# Altium footprint library Headers.PcbLib: 91 footprints (part 5 of 6)
Each footprint in its own frame and in the unit in brackets; x right, y up, seen from the top. Pads: shape width x height; smd on the part's side, far side on the other; paste and mask are expansions set on the pad; w line width, h text height; cw(c..) or ccw(c..) is an arc to the next point about the centre after c.
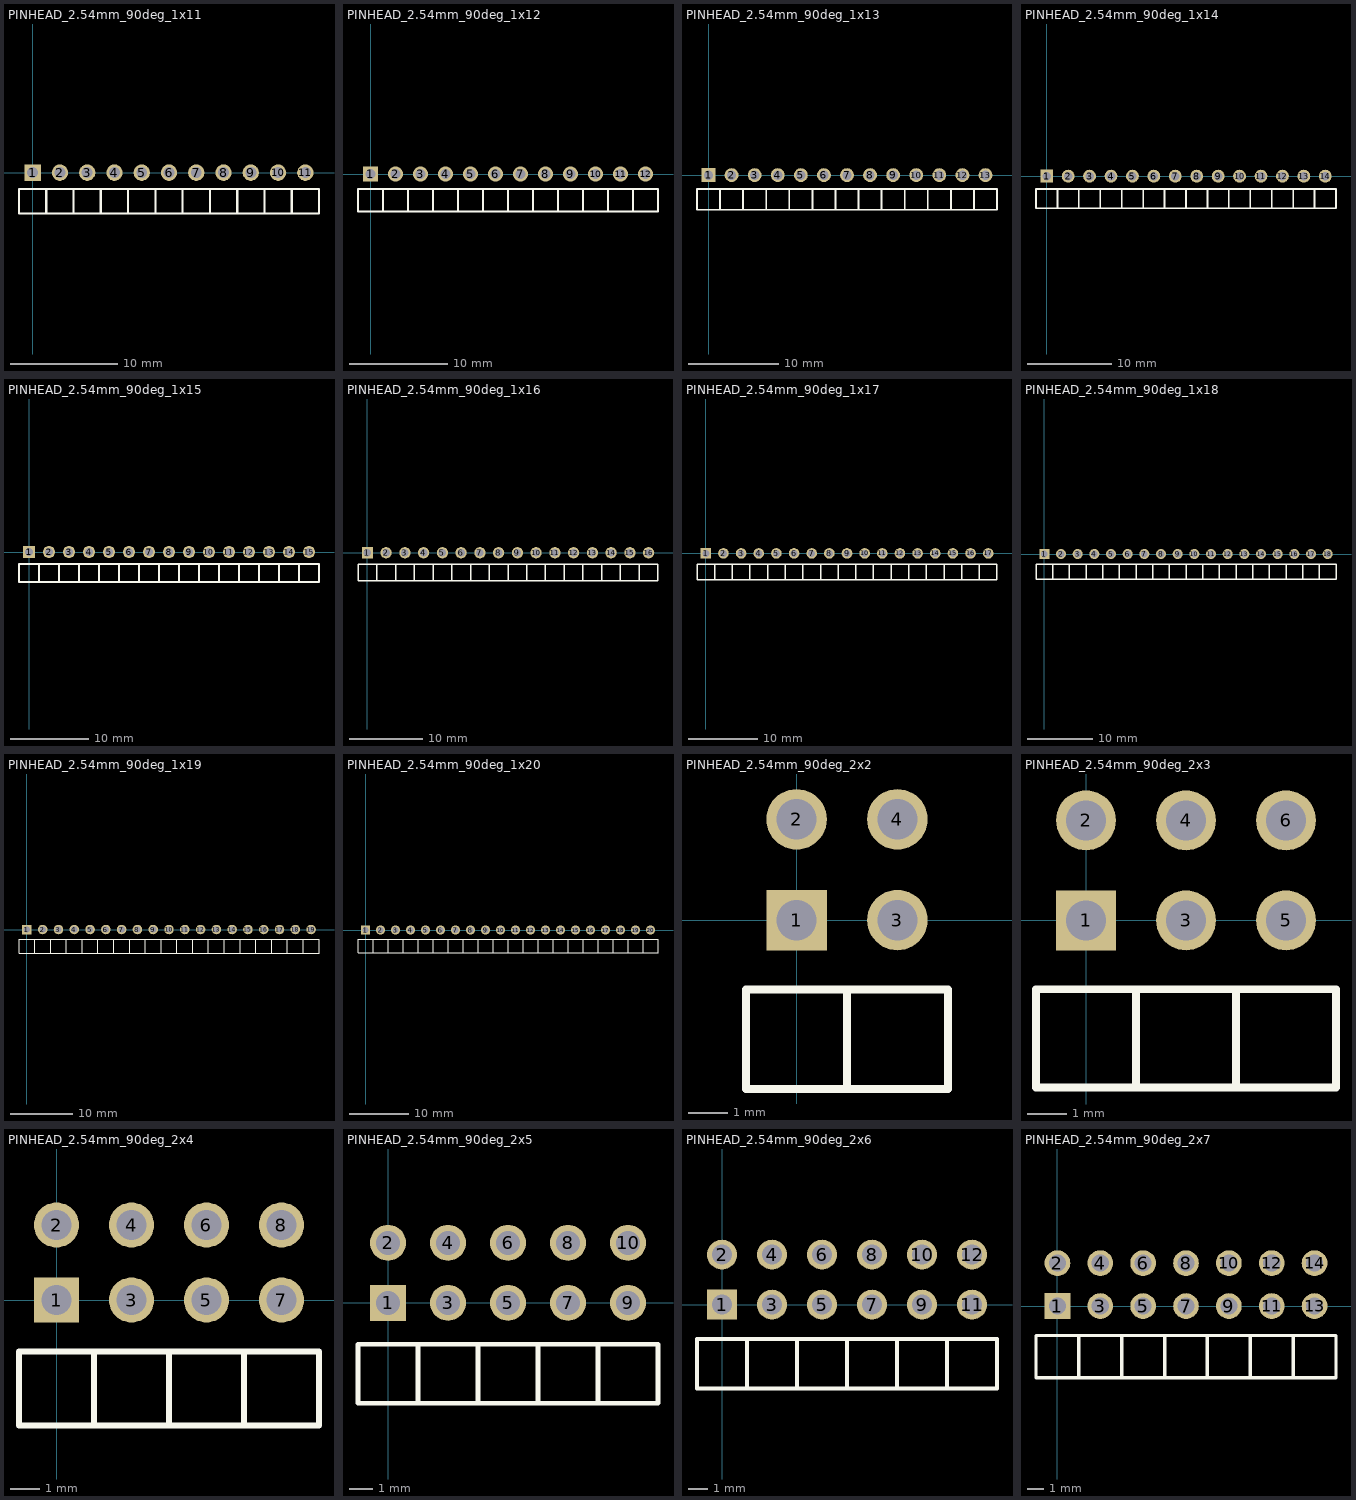
[diagram p4: the footprints below, top view; thin cyan lines are the x and y axes]

## PINHEAD_2.54mm_90deg_1x11 [mil]
pads (11):
  rect 60x60 hole 40: 1(0,0)
  round 60 hole 40: 2(100,0) 3(200,0) 4(300,0) 5(400,0) 6(500,0) 7(600,0) 8(700,0) 9(800,0) 10(900,0) 11(1000,0)
Top Overlay:
  lines w7.87: 50,-150 50,-60 ; 250,-150 250,-60 ; 150,-150 350,-150 ; 150,-150 150,-60 ; 150,-150 150,-60 ; 150,-150 -50,-150 -50,-60 150,-60 ; 150,-60 350,-60 ; 350,-150 350,-60 ; 350,-150 350,-60 ; 350,-150 450,-150 ; 350,-60 450,-60 ; 450,-150 450,-60 ; 450,-150 450,-60 ; 450,-150 550,-150 ; 450,-60 550,-60 ; 550,-150 550,-60 ; 550,-150 550,-60 ; 550,-150 650,-150 ; 550,-60 650,-60 ; 650,-150 650,-60 ; 650,-150 650,-60 ; 650,-150 750,-150 ; 650,-60 750,-60 ; 750,-150 750,-60 ; 750,-150 750,-60 ; 750,-150 850,-150 ; 750,-60 850,-60 ; 850,-150 850,-60 ; 850,-150 850,-60 ; 850,-150 950,-150 ; 850,-60 950,-60 ; 950,-150 950,-60 ; 950,-150 950,-60 ; 950,-150 1050,-150 1050,-60 950,-60
3D body "User Library-Header90-1.step": height 101, standoff -117.11, extent 249.81,-395.08 349.81,12.8
3D body "User Library-Header90-1.step": height 101, standoff -117.11, extent 149.81,-395.08 249.81,12.8
3D body "User Library-Header90-1.step": height 101, standoff -117.11, extent 349.81,-395.08 449.81,12.8
3D body "User Library-Header90-1.step": height 101, standoff -117.11, extent 449.81,-395.08 549.81,12.8
3D body "User Library-Header90-1.step": height 101, standoff -117.11, extent 549.81,-395.08 649.81,12.8
3D body "User Library-Header90-1.step": height 101, standoff -117.11, extent 649.81,-395.08 749.81,12.8
3D body "User Library-Header90-1.step": height 101, standoff -117.11, extent 749.81,-395.08 849.81,12.8
3D body "User Library-Header90-1.step": height 101, standoff -117.11, extent 849.81,-395.08 949.81,12.8
3D body "User Library-Header90-1.step": height 101, standoff -117.11, extent 949.81,-395.08 1049.81,12.8
3D body "User Library-Header90-1.step": height 101, standoff -117.11, extent -50.19,-395.08 49.81,12.8
3D body "User Library-Header90-1.step": height 101, standoff -117.11, extent 49.81,-395.08 149.81,12.8

## PINHEAD_2.54mm_90deg_1x12 [mil]
pads (12):
  rect 60x60 hole 40: 1(0,0)
  round 60 hole 40: 2(100,0) 3(200,0) 4(300,0) 5(400,0) 6(500,0) 7(600,0) 8(700,0) 9(800,0) 10(900,0) 11(1000,0) 12(1100,0)
Top Overlay:
  lines w7.87: 50,-150 50,-60 ; 250,-150 250,-60 ; 150,-150 350,-150 ; 150,-150 150,-60 ; 150,-150 150,-60 ; 150,-150 -50,-150 -50,-60 150,-60 ; 150,-60 350,-60 ; 350,-150 350,-60 ; 350,-150 350,-60 ; 350,-150 450,-150 ; 350,-60 450,-60 ; 450,-150 450,-60 ; 450,-150 450,-60 ; 450,-150 550,-150 ; 450,-60 550,-60 ; 550,-150 550,-60 ; 550,-150 550,-60 ; 550,-150 650,-150 ; 550,-60 650,-60 ; 650,-150 650,-60 ; 650,-150 650,-60 ; 650,-150 750,-150 ; 650,-60 750,-60 ; 750,-150 750,-60 ; 750,-150 750,-60 ; 750,-150 850,-150 ; 750,-60 850,-60 ; 850,-150 850,-60 ; 850,-150 850,-60 ; 850,-150 950,-150 ; 850,-60 950,-60 ; 950,-150 950,-60 ; 950,-150 950,-60 ; 950,-150 1050,-150 ; 950,-60 1050,-60 ; 1050,-150 1050,-60 ; 1050,-150 1150,-150 1150,-60 1050,-60 ; 1050,-150 1050,-60 ; 1050,-150 1050,-60
3D body "User Library-Header90-1.step": height 101, standoff -117.11, extent 249.81,-395.08 349.81,12.8
3D body "User Library-Header90-1.step": height 101, standoff -117.11, extent 149.81,-395.08 249.81,12.8
3D body "User Library-Header90-1.step": height 101, standoff -117.11, extent 349.81,-395.08 449.81,12.8
3D body "User Library-Header90-1.step": height 101, standoff -117.11, extent 449.81,-395.08 549.81,12.8
3D body "User Library-Header90-1.step": height 101, standoff -117.11, extent 549.81,-395.08 649.81,12.8
3D body "User Library-Header90-1.step": height 101, standoff -117.11, extent 649.81,-395.08 749.81,12.8
3D body "User Library-Header90-1.step": height 101, standoff -117.11, extent 749.81,-395.08 849.81,12.8
3D body "User Library-Header90-1.step": height 101, standoff -117.11, extent 849.81,-395.08 949.81,12.8
3D body "User Library-Header90-1.step": height 101, standoff -117.11, extent 949.81,-395.08 1049.81,12.8
3D body "User Library-Header90-1.step": height 101, standoff -117.11, extent -50.19,-395.08 49.81,12.8
3D body "User Library-Header90-1.step": height 101, standoff -117.11, extent 49.81,-395.08 149.81,12.8
3D body "User Library-Header90-1.step": height 101, standoff -117.11, extent 1049.81,-395.08 1149.81,12.8

## PINHEAD_2.54mm_90deg_1x13 [mil]
pads (13):
  rect 60x60 hole 40: 1(0,0)
  round 60 hole 40: 2(100,0) 3(200,0) 4(300,0) 5(400,0) 6(500,0) 7(600,0) 8(700,0) 9(800,0) 10(900,0) 11(1000,0) 12(1100,0) 13(1200,0)
Top Overlay:
  lines w7.87: 50,-150 50,-60 ; 250,-150 250,-60 ; 150,-150 -50,-150 -50,-60 150,-60 ; 150,-150 150,-60 ; 150,-150 150,-60 ; 150,-150 350,-150 ; 150,-60 350,-60 ; 350,-150 450,-150 ; 350,-150 350,-60 ; 350,-150 350,-60 ; 350,-60 450,-60 ; 450,-150 550,-150 ; 450,-150 450,-60 ; 450,-150 450,-60 ; 450,-60 550,-60 ; 550,-150 650,-150 ; 550,-150 550,-60 ; 550,-150 550,-60 ; 550,-60 650,-60 ; 650,-150 750,-150 ; 650,-150 650,-60 ; 650,-150 650,-60 ; 650,-60 750,-60 ; 750,-150 850,-150 ; 750,-150 750,-60 ; 750,-150 750,-60 ; 750,-60 850,-60 ; 850,-150 950,-150 ; 850,-150 850,-60 ; 850,-150 850,-60 ; 850,-60 950,-60 ; 950,-150 1050,-150 ; 950,-150 950,-60 ; 950,-150 950,-60 ; 950,-60 1050,-60 ; 1050,-150 1050,-60 ; 1050,-150 1050,-60 ; 1050,-150 1150,-150 ; 1050,-150 1050,-60 ; 1050,-60 1150,-60 ; 1150,-150 1150,-60 ; 1150,-150 1250,-150 1250,-60 1150,-60 ; 1150,-150 1150,-60
3D body "User Library-Header90-1.step": height 101, standoff -117.11, extent 1149.81,-395.08 1249.81,12.8
3D body "User Library-Header90-1.step": height 101, standoff -117.11, extent 1049.81,-395.08 1149.81,12.8
3D body "User Library-Header90-1.step": height 101, standoff -117.11, extent 49.81,-395.08 149.81,12.8
3D body "User Library-Header90-1.step": height 101, standoff -117.11, extent -50.19,-395.08 49.81,12.8
3D body "User Library-Header90-1.step": height 101, standoff -117.11, extent 949.81,-395.08 1049.81,12.8
3D body "User Library-Header90-1.step": height 101, standoff -117.11, extent 849.81,-395.08 949.81,12.8
3D body "User Library-Header90-1.step": height 101, standoff -117.11, extent 749.81,-395.08 849.81,12.8
3D body "User Library-Header90-1.step": height 101, standoff -117.11, extent 649.81,-395.08 749.81,12.8
3D body "User Library-Header90-1.step": height 101, standoff -117.11, extent 549.81,-395.08 649.81,12.8
3D body "User Library-Header90-1.step": height 101, standoff -117.11, extent 449.81,-395.08 549.81,12.8
3D body "User Library-Header90-1.step": height 101, standoff -117.11, extent 349.81,-395.08 449.81,12.8
3D body "User Library-Header90-1.step": height 101, standoff -117.11, extent 149.81,-395.08 249.81,12.8
3D body "User Library-Header90-1.step": height 101, standoff -117.11, extent 249.81,-395.08 349.81,12.8

## PINHEAD_2.54mm_90deg_1x14 [mil]
pads (14):
  rect 60x60 hole 40: 1(0,0)
  round 60 hole 40: 2(100,0) 3(200,0) 4(300,0) 5(400,0) 6(500,0) 7(600,0) 8(700,0) 9(800,0) 10(900,0) 11(1000,0) 12(1100,0) 13(1200,0) 14(1300,0)
Top Overlay:
  lines w7.87: 50,-150 50,-60 ; 250,-150 250,-60 ; 150,-150 350,-150 ; 150,-150 150,-60 ; 150,-150 150,-60 ; 150,-150 -50,-150 -50,-60 150,-60 ; 150,-60 350,-60 ; 350,-150 350,-60 ; 350,-150 350,-60 ; 350,-150 450,-150 ; 350,-60 450,-60 ; 450,-150 450,-60 ; 450,-150 450,-60 ; 450,-150 550,-150 ; 450,-60 550,-60 ; 550,-150 550,-60 ; 550,-150 550,-60 ; 550,-150 650,-150 ; 550,-60 650,-60 ; 650,-150 650,-60 ; 650,-150 650,-60 ; 650,-150 750,-150 ; 650,-60 750,-60 ; 750,-150 750,-60 ; 750,-150 750,-60 ; 750,-150 850,-150 ; 750,-60 850,-60 ; 850,-150 850,-60 ; 850,-150 850,-60 ; 850,-150 950,-150 ; 850,-60 950,-60 ; 950,-150 950,-60 ; 950,-150 950,-60 ; 950,-150 1050,-150 ; 950,-60 1050,-60 ; 1050,-150 1050,-60 ; 1050,-150 1150,-150 ; 1050,-150 1050,-60 ; 1050,-150 1050,-60 ; 1050,-60 1150,-60 ; 1150,-150 1150,-60 ; 1150,-150 1250,-150 ; 1150,-150 1150,-60 ; 1150,-60 1250,-60 ; 1250,-150 1250,-60 ; 1250,-150 1350,-150 1350,-60 1250,-60 ; 1250,-150 1250,-60
3D body "User Library-Header90-1.step": height 101, standoff -117.11, extent 249.81,-395.08 349.81,12.8
3D body "User Library-Header90-1.step": height 101, standoff -117.11, extent 149.81,-395.08 249.81,12.8
3D body "User Library-Header90-1.step": height 101, standoff -117.11, extent 349.81,-395.08 449.81,12.8
3D body "User Library-Header90-1.step": height 101, standoff -117.11, extent 449.81,-395.08 549.81,12.8
3D body "User Library-Header90-1.step": height 101, standoff -117.11, extent 549.81,-395.08 649.81,12.8
3D body "User Library-Header90-1.step": height 101, standoff -117.11, extent 649.81,-395.08 749.81,12.8
3D body "User Library-Header90-1.step": height 101, standoff -117.11, extent 749.81,-395.08 849.81,12.8
3D body "User Library-Header90-1.step": height 101, standoff -117.11, extent 849.81,-395.08 949.81,12.8
3D body "User Library-Header90-1.step": height 101, standoff -117.11, extent 949.81,-395.08 1049.81,12.8
3D body "User Library-Header90-1.step": height 101, standoff -117.11, extent -50.19,-395.08 49.81,12.8
3D body "User Library-Header90-1.step": height 101, standoff -117.11, extent 49.81,-395.08 149.81,12.8
3D body "User Library-Header90-1.step": height 101, standoff -117.11, extent 1049.81,-395.08 1149.81,12.8
3D body "User Library-Header90-1.step": height 101, standoff -117.11, extent 1149.81,-395.08 1249.81,12.8
3D body "User Library-Header90-1.step": height 101, standoff -117.11, extent 1249.81,-395.08 1349.81,12.8

## PINHEAD_2.54mm_90deg_1x15 [mil]
pads (15):
  rect 60x60 hole 40: 1(0,0)
  round 60 hole 40: 2(100,0) 3(200,0) 4(300,0) 5(400,0) 6(500,0) 7(600,0) 8(700,0) 9(800,0) 10(900,0) 11(1000,0) 12(1100,0) 13(1200,0) 14(1300,0) 15(1400,0)
Top Overlay:
  lines w7.87: 50,-150 50,-60 ; 250,-150 250,-60 ; 150,-150 350,-150 ; 150,-150 150,-60 ; 150,-150 150,-60 ; 150,-150 -50,-150 -50,-60 150,-60 ; 150,-60 350,-60 ; 350,-150 350,-60 ; 350,-150 350,-60 ; 350,-150 450,-150 ; 350,-60 450,-60 ; 450,-150 450,-60 ; 450,-150 450,-60 ; 450,-150 550,-150 ; 450,-60 550,-60 ; 550,-150 550,-60 ; 550,-150 550,-60 ; 550,-150 650,-150 ; 550,-60 650,-60 ; 650,-150 650,-60 ; 650,-150 650,-60 ; 650,-150 750,-150 ; 650,-60 750,-60 ; 750,-150 750,-60 ; 750,-150 750,-60 ; 750,-150 850,-150 ; 750,-60 850,-60 ; 850,-150 850,-60 ; 850,-150 850,-60 ; 850,-150 950,-150 ; 850,-60 950,-60 ; 950,-150 950,-60 ; 950,-150 950,-60 ; 950,-150 1050,-150 ; 950,-60 1050,-60 ; 1050,-150 1050,-60 ; 1050,-150 1150,-150 ; 1050,-150 1050,-60 ; 1050,-150 1050,-60 ; 1050,-60 1150,-60 ; 1150,-150 1150,-60 ; 1150,-150 1250,-150 ; 1150,-150 1150,-60 ; 1150,-60 1250,-60 ; 1250,-150 1250,-60 ; 1250,-150 1350,-150 ; 1250,-150 1250,-60 ; 1250,-60 1350,-60 ; 1350,-150 1350,-60 ; 1350,-150 1450,-150 1450,-60 1350,-60 ; 1350,-150 1350,-60
3D body "User Library-Header90-1.step": height 101, standoff -117.11, extent 249.81,-395.08 349.81,12.8
3D body "User Library-Header90-1.step": height 101, standoff -117.11, extent 149.81,-395.08 249.81,12.8
3D body "User Library-Header90-1.step": height 101, standoff -117.11, extent 349.81,-395.08 449.81,12.8
3D body "User Library-Header90-1.step": height 101, standoff -117.11, extent 449.81,-395.08 549.81,12.8
3D body "User Library-Header90-1.step": height 101, standoff -117.11, extent 549.81,-395.08 649.81,12.8
3D body "User Library-Header90-1.step": height 101, standoff -117.11, extent 649.81,-395.08 749.81,12.8
3D body "User Library-Header90-1.step": height 101, standoff -117.11, extent 749.81,-395.08 849.81,12.8
3D body "User Library-Header90-1.step": height 101, standoff -117.11, extent 849.81,-395.08 949.81,12.8
3D body "User Library-Header90-1.step": height 101, standoff -117.11, extent 949.81,-395.08 1049.81,12.8
3D body "User Library-Header90-1.step": height 101, standoff -117.11, extent -50.19,-395.08 49.81,12.8
3D body "User Library-Header90-1.step": height 101, standoff -117.11, extent 49.81,-395.08 149.81,12.8
3D body "User Library-Header90-1.step": height 101, standoff -117.11, extent 1049.81,-395.08 1149.81,12.8
3D body "User Library-Header90-1.step": height 101, standoff -117.11, extent 1149.81,-395.08 1249.81,12.8
3D body "User Library-Header90-1.step": height 101, standoff -117.11, extent 1249.81,-395.08 1349.81,12.8
3D body "User Library-Header90-1.step": height 101, standoff -117.11, extent 1349.81,-395.08 1449.81,12.8

## PINHEAD_2.54mm_90deg_1x16 [mil]
pads (16):
  rect 60x60 hole 40: 1(0,0)
  round 60 hole 40: 2(100,0) 3(200,0) 4(300,0) 5(400,0) 6(500,0) 7(600,0) 8(700,0) 9(800,0) 10(900,0) 11(1000,0) 12(1100,0) 13(1200,0) 14(1300,0) 15(1400,0) 16(1500,0)
Top Overlay:
  lines w7.87: 50,-150 50,-60 ; 250,-150 250,-60 ; 150,-150 -50,-150 -50,-60 150,-60 ; 150,-150 150,-60 ; 150,-150 150,-60 ; 150,-150 350,-150 ; 150,-60 350,-60 ; 350,-150 450,-150 ; 350,-150 350,-60 ; 350,-150 350,-60 ; 350,-60 450,-60 ; 450,-150 550,-150 ; 450,-150 450,-60 ; 450,-150 450,-60 ; 450,-60 550,-60 ; 550,-150 650,-150 ; 550,-150 550,-60 ; 550,-150 550,-60 ; 550,-60 650,-60 ; 650,-150 750,-150 ; 650,-150 650,-60 ; 650,-150 650,-60 ; 650,-60 750,-60 ; 750,-150 850,-150 ; 750,-150 750,-60 ; 750,-150 750,-60 ; 750,-60 850,-60 ; 850,-150 950,-150 ; 850,-150 850,-60 ; 850,-150 850,-60 ; 850,-60 950,-60 ; 950,-150 1050,-150 ; 950,-150 950,-60 ; 950,-150 950,-60 ; 950,-60 1050,-60 ; 1050,-150 1050,-60 ; 1050,-150 1050,-60 ; 1050,-150 1150,-150 ; 1050,-150 1050,-60 ; 1050,-60 1150,-60 ; 1150,-150 1150,-60 ; 1150,-150 1250,-150 ; 1150,-150 1150,-60 ; 1150,-60 1250,-60 ; 1250,-150 1250,-60 ; 1250,-150 1350,-150 ; 1250,-150 1250,-60 ; 1250,-60 1350,-60 ; 1350,-150 1350,-60 ; 1350,-150 1450,-150 ; 1350,-150 1350,-60 ; 1350,-60 1450,-60 ; 1450,-150 1450,-60 ; 1450,-150 1550,-150 1550,-60 1450,-60 ; 1450,-150 1450,-60
3D body "User Library-Header90-1.step": height 101, standoff -117.11, extent 1349.81,-395.08 1449.81,12.8
3D body "User Library-Header90-1.step": height 101, standoff -117.11, extent 1249.81,-395.08 1349.81,12.8
3D body "User Library-Header90-1.step": height 101, standoff -117.11, extent 1149.81,-395.08 1249.81,12.8
3D body "User Library-Header90-1.step": height 101, standoff -117.11, extent 1049.81,-395.08 1149.81,12.8
3D body "User Library-Header90-1.step": height 101, standoff -117.11, extent 49.81,-395.08 149.81,12.8
3D body "User Library-Header90-1.step": height 101, standoff -117.11, extent -50.19,-395.08 49.81,12.8
3D body "User Library-Header90-1.step": height 101, standoff -117.11, extent 949.81,-395.08 1049.81,12.8
3D body "User Library-Header90-1.step": height 101, standoff -117.11, extent 849.81,-395.08 949.81,12.8
3D body "User Library-Header90-1.step": height 101, standoff -117.11, extent 749.81,-395.08 849.81,12.8
3D body "User Library-Header90-1.step": height 101, standoff -117.11, extent 649.81,-395.08 749.81,12.8
3D body "User Library-Header90-1.step": height 101, standoff -117.11, extent 549.81,-395.08 649.81,12.8
3D body "User Library-Header90-1.step": height 101, standoff -117.11, extent 449.81,-395.08 549.81,12.8
3D body "User Library-Header90-1.step": height 101, standoff -117.11, extent 349.81,-395.08 449.81,12.8
3D body "User Library-Header90-1.step": height 101, standoff -117.11, extent 149.81,-395.08 249.81,12.8
3D body "User Library-Header90-1.step": height 101, standoff -117.11, extent 249.81,-395.08 349.81,12.8
3D body "User Library-Header90-1.step": height 101, standoff -117.11, extent 1449.81,-395.08 1549.81,12.8

## PINHEAD_2.54mm_90deg_1x17 [mil]
pads (17):
  rect 60x60 hole 40: 1(0,0)
  round 60 hole 40: 2(100,0) 3(200,0) 4(300,0) 5(400,0) 6(500,0) 7(600,0) 8(700,0) 9(800,0) 10(900,0) 11(1000,0) 12(1100,0) 13(1200,0) 14(1300,0) 15(1400,0) 16(1500,0) 17(1600,0)
Top Overlay:
  lines w7.87: 50,-150 50,-60 ; 250,-150 250,-60 ; 150,-150 -50,-150 -50,-60 150,-60 ; 150,-150 150,-60 ; 150,-150 150,-60 ; 150,-150 350,-150 ; 150,-60 350,-60 ; 350,-150 450,-150 ; 350,-150 350,-60 ; 350,-150 350,-60 ; 350,-60 450,-60 ; 450,-150 550,-150 ; 450,-150 450,-60 ; 450,-150 450,-60 ; 450,-60 550,-60 ; 550,-150 650,-150 ; 550,-150 550,-60 ; 550,-150 550,-60 ; 550,-60 650,-60 ; 650,-150 750,-150 ; 650,-150 650,-60 ; 650,-150 650,-60 ; 650,-60 750,-60 ; 750,-150 850,-150 ; 750,-150 750,-60 ; 750,-150 750,-60 ; 750,-60 850,-60 ; 850,-150 950,-150 ; 850,-150 850,-60 ; 850,-150 850,-60 ; 850,-60 950,-60 ; 950,-150 1050,-150 ; 950,-150 950,-60 ; 950,-150 950,-60 ; 950,-60 1050,-60 ; 1050,-150 1050,-60 ; 1050,-150 1050,-60 ; 1050,-150 1150,-150 ; 1050,-150 1050,-60 ; 1050,-60 1150,-60 ; 1150,-150 1150,-60 ; 1150,-150 1250,-150 ; 1150,-150 1150,-60 ; 1150,-60 1250,-60 ; 1250,-150 1350,-150 ; 1250,-150 1250,-60 ; 1250,-150 1250,-60 ; 1250,-60 1350,-60 ; 1350,-150 1350,-60 ; 1350,-150 1450,-150 ; 1350,-150 1350,-60 ; 1350,-60 1450,-60 ; 1450,-150 1450,-60 ; 1450,-150 1550,-150 ; 1450,-150 1450,-60 ; 1450,-60 1550,-60 ; 1550,-150 1550,-60 ; 1550,-150 1650,-150 1650,-60 1550,-60 ; 1550,-150 1550,-60
3D body "User Library-Header90-1.step": height 101, standoff -117.11, extent 1049.81,-395.08 1149.81,12.8
3D body "User Library-Header90-1.step": height 101, standoff -117.11, extent 49.81,-395.08 149.81,12.8
3D body "User Library-Header90-1.step": height 101, standoff -117.11, extent -50.19,-395.08 49.81,12.8
3D body "User Library-Header90-1.step": height 101, standoff -117.11, extent 949.81,-395.08 1049.81,12.8
3D body "User Library-Header90-1.step": height 101, standoff -117.11, extent 849.81,-395.08 949.81,12.8
3D body "User Library-Header90-1.step": height 101, standoff -117.11, extent 749.81,-395.08 849.81,12.8
3D body "User Library-Header90-1.step": height 101, standoff -117.11, extent 649.81,-395.08 749.81,12.8
3D body "User Library-Header90-1.step": height 101, standoff -117.11, extent 549.81,-395.08 649.81,12.8
3D body "User Library-Header90-1.step": height 101, standoff -117.11, extent 449.81,-395.08 549.81,12.8
3D body "User Library-Header90-1.step": height 101, standoff -117.11, extent 349.81,-395.08 449.81,12.8
3D body "User Library-Header90-1.step": height 101, standoff -117.11, extent 149.81,-395.08 249.81,12.8
3D body "User Library-Header90-1.step": height 101, standoff -117.11, extent 249.81,-395.08 349.81,12.8
3D body "User Library-Header90-1.step": height 101, standoff -117.11, extent 1249.81,-395.08 1349.81,12.8
3D body "User Library-Header90-1.step": height 101, standoff -117.11, extent 1149.81,-395.08 1249.81,12.8
3D body "User Library-Header90-1.step": height 101, standoff -117.11, extent 1349.81,-395.08 1449.81,12.8
3D body "User Library-Header90-1.step": height 101, standoff -117.11, extent 1449.81,-395.08 1549.81,12.8
3D body "User Library-Header90-1.step": height 101, standoff -117.11, extent 1549.81,-395.08 1649.81,12.8

## PINHEAD_2.54mm_90deg_1x18 [mil]
pads (18):
  rect 60x60 hole 40: 1(0,0)
  round 60 hole 40: 2(100,0) 3(200,0) 4(300,0) 5(400,0) 6(500,0) 7(600,0) 8(700,0) 9(800,0) 10(900,0) 11(1000,0) 12(1100,0) 13(1200,0) 14(1300,0) 15(1400,0) 16(1500,0) 17(1600,0) 18(1700,0)
Top Overlay:
  lines w7.87: 50,-150 50,-60 ; 250,-150 250,-60 ; 150,-150 350,-150 ; 150,-150 150,-60 ; 150,-150 150,-60 ; 150,-150 -50,-150 -50,-60 150,-60 ; 150,-60 350,-60 ; 350,-150 350,-60 ; 350,-150 350,-60 ; 350,-150 450,-150 ; 350,-60 450,-60 ; 450,-150 450,-60 ; 450,-150 450,-60 ; 450,-150 550,-150 ; 450,-60 550,-60 ; 550,-150 550,-60 ; 550,-150 550,-60 ; 550,-150 650,-150 ; 550,-60 650,-60 ; 650,-150 650,-60 ; 650,-150 650,-60 ; 650,-150 750,-150 ; 650,-60 750,-60 ; 750,-150 750,-60 ; 750,-150 750,-60 ; 750,-150 850,-150 ; 750,-60 850,-60 ; 850,-150 850,-60 ; 850,-150 850,-60 ; 850,-150 950,-150 ; 850,-60 950,-60 ; 950,-150 950,-60 ; 950,-150 950,-60 ; 950,-150 1050,-150 ; 950,-60 1050,-60 ; 1050,-150 1050,-60 ; 1050,-150 1150,-150 ; 1050,-150 1050,-60 ; 1050,-150 1050,-60 ; 1050,-60 1150,-60 ; 1150,-150 1150,-60 ; 1150,-150 1250,-150 ; 1150,-150 1150,-60 ; 1150,-60 1250,-60 ; 1250,-150 1250,-60 ; 1250,-150 1350,-150 ; 1250,-150 1250,-60 ; 1250,-60 1350,-60 ; 1350,-150 1350,-60 ; 1350,-150 1450,-150 ; 1350,-150 1350,-60 ; 1350,-60 1450,-60 ; 1450,-150 1450,-60 ; 1450,-150 1550,-150 ; 1450,-150 1450,-60 ; 1450,-60 1550,-60 ; 1550,-150 1550,-60 ; 1550,-150 1650,-150 ; 1550,-150 1550,-60 ; 1550,-60 1650,-60 ; 1650,-150 1650,-60 ; 1650,-150 1750,-150 1750,-60 1650,-60 ; 1650,-150 1650,-60
3D body "User Library-Header90-1.step": height 101, standoff -117.11, extent 249.81,-395.08 349.81,12.8
3D body "User Library-Header90-1.step": height 101, standoff -117.11, extent 149.81,-395.08 249.81,12.8
3D body "User Library-Header90-1.step": height 101, standoff -117.11, extent 349.81,-395.08 449.81,12.8
3D body "User Library-Header90-1.step": height 101, standoff -117.11, extent 449.81,-395.08 549.81,12.8
3D body "User Library-Header90-1.step": height 101, standoff -117.11, extent 549.81,-395.08 649.81,12.8
3D body "User Library-Header90-1.step": height 101, standoff -117.11, extent 649.81,-395.08 749.81,12.8
3D body "User Library-Header90-1.step": height 101, standoff -117.11, extent 749.81,-395.08 849.81,12.8
3D body "User Library-Header90-1.step": height 101, standoff -117.11, extent 849.81,-395.08 949.81,12.8
3D body "User Library-Header90-1.step": height 101, standoff -117.11, extent 949.81,-395.08 1049.81,12.8
3D body "User Library-Header90-1.step": height 101, standoff -117.11, extent -50.19,-395.08 49.81,12.8
3D body "User Library-Header90-1.step": height 101, standoff -117.11, extent 49.81,-395.08 149.81,12.8
3D body "User Library-Header90-1.step": height 101, standoff -117.11, extent 1049.81,-395.08 1149.81,12.8
3D body "User Library-Header90-1.step": height 101, standoff -117.11, extent 1149.81,-395.08 1249.81,12.8
3D body "User Library-Header90-1.step": height 101, standoff -117.11, extent 1249.81,-395.08 1349.81,12.8
3D body "User Library-Header90-1.step": height 101, standoff -117.11, extent 1349.81,-395.08 1449.81,12.8
3D body "User Library-Header90-1.step": height 101, standoff -117.11, extent 1449.81,-395.08 1549.81,12.8
3D body "User Library-Header90-1.step": height 101, standoff -117.11, extent 1549.81,-395.08 1649.81,12.8
3D body "User Library-Header90-1.step": height 101, standoff -117.11, extent 1649.81,-395.08 1749.81,12.8

## PINHEAD_2.54mm_90deg_1x19 [mil]
pads (19):
  rect 60x60 hole 40: 1(0,0)
  round 60 hole 40: 2(100,0) 3(200,0) 4(300,0) 5(400,0) 6(500,0) 7(600,0) 8(700,0) 9(800,0) 10(900,0) 11(1000,0) 12(1100,0) 13(1200,0) 14(1300,0) 15(1400,0) 16(1500,0) 17(1600,0) 18(1700,0) 19(1800,0)
Top Overlay:
  lines w7.87: 50,-150 50,-60 ; 250,-150 250,-60 ; 150,-150 350,-150 ; 150,-150 150,-60 ; 150,-150 150,-60 ; 150,-150 -50,-150 -50,-60 150,-60 ; 150,-60 350,-60 ; 350,-150 350,-60 ; 350,-150 350,-60 ; 350,-150 450,-150 ; 350,-60 450,-60 ; 450,-150 450,-60 ; 450,-150 450,-60 ; 450,-150 550,-150 ; 450,-60 550,-60 ; 550,-150 550,-60 ; 550,-150 550,-60 ; 550,-150 650,-150 ; 550,-60 650,-60 ; 650,-150 650,-60 ; 650,-150 650,-60 ; 650,-150 750,-150 ; 650,-60 750,-60 ; 750,-150 750,-60 ; 750,-150 750,-60 ; 750,-150 850,-150 ; 750,-60 850,-60 ; 850,-150 850,-60 ; 850,-150 850,-60 ; 850,-150 950,-150 ; 850,-60 950,-60 ; 950,-150 950,-60 ; 950,-150 950,-60 ; 950,-150 1050,-150 ; 950,-60 1050,-60 ; 1050,-150 1050,-60 ; 1050,-150 1150,-150 ; 1050,-150 1050,-60 ; 1050,-150 1050,-60 ; 1050,-60 1150,-60 ; 1150,-150 1150,-60 ; 1150,-150 1250,-150 ; 1150,-150 1150,-60 ; 1150,-60 1250,-60 ; 1250,-150 1250,-60 ; 1250,-150 1350,-150 ; 1250,-150 1250,-60 ; 1250,-60 1350,-60 ; 1350,-150 1350,-60 ; 1350,-150 1450,-150 ; 1350,-150 1350,-60 ; 1350,-60 1450,-60 ; 1450,-150 1450,-60 ; 1450,-150 1550,-150 ; 1450,-150 1450,-60 ; 1450,-60 1550,-60 ; 1550,-150 1550,-60 ; 1550,-150 1650,-150 ; 1550,-150 1550,-60 ; 1550,-60 1650,-60 ; 1650,-150 1650,-60 ; 1650,-150 1750,-150 ; 1650,-150 1650,-60 ; 1650,-60 1750,-60 ; 1750,-150 1750,-60 ; 1750,-150 1850,-150 1850,-60 1750,-60 ; 1750,-150 1750,-60
3D body "User Library-Header90-1.step": height 101, standoff -117.11, extent 249.81,-395.08 349.81,12.8
3D body "User Library-Header90-1.step": height 101, standoff -117.11, extent 149.81,-395.08 249.81,12.8
3D body "User Library-Header90-1.step": height 101, standoff -117.11, extent 349.81,-395.08 449.81,12.8
3D body "User Library-Header90-1.step": height 101, standoff -117.11, extent 449.81,-395.08 549.81,12.8
3D body "User Library-Header90-1.step": height 101, standoff -117.11, extent 549.81,-395.08 649.81,12.8
3D body "User Library-Header90-1.step": height 101, standoff -117.11, extent 649.81,-395.08 749.81,12.8
3D body "User Library-Header90-1.step": height 101, standoff -117.11, extent 749.81,-395.08 849.81,12.8
3D body "User Library-Header90-1.step": height 101, standoff -117.11, extent 849.81,-395.08 949.81,12.8
3D body "User Library-Header90-1.step": height 101, standoff -117.11, extent 949.81,-395.08 1049.81,12.8
3D body "User Library-Header90-1.step": height 101, standoff -117.11, extent -50.19,-395.08 49.81,12.8
3D body "User Library-Header90-1.step": height 101, standoff -117.11, extent 49.81,-395.08 149.81,12.8
3D body "User Library-Header90-1.step": height 101, standoff -117.11, extent 1049.81,-395.08 1149.81,12.8
3D body "User Library-Header90-1.step": height 101, standoff -117.11, extent 1149.81,-395.08 1249.81,12.8
3D body "User Library-Header90-1.step": height 101, standoff -117.11, extent 1249.81,-395.08 1349.81,12.8
3D body "User Library-Header90-1.step": height 101, standoff -117.11, extent 1349.81,-395.08 1449.81,12.8
3D body "User Library-Header90-1.step": height 101, standoff -117.11, extent 1449.81,-395.08 1549.81,12.8
3D body "User Library-Header90-1.step": height 101, standoff -117.11, extent 1549.81,-395.08 1649.81,12.8
3D body "User Library-Header90-1.step": height 101, standoff -117.11, extent 1649.81,-395.08 1749.81,12.8
3D body "User Library-Header90-1.step": height 101, standoff -117.11, extent 1749.81,-395.08 1849.81,12.8

## PINHEAD_2.54mm_90deg_1x20 [mil]
pads (20):
  rect 60x60 hole 40: 1(0,0)
  round 60 hole 40: 2(100,0) 3(200,0) 4(300,0) 5(400,0) 6(500,0) 7(600,0) 8(700,0) 9(800,0) 10(900,0) 11(1000,0) 12(1100,0) 13(1200,0) 14(1300,0) 15(1400,0) 16(1500,0) 17(1600,0) 18(1700,0) 19(1800,0) 20(1900,0)
Top Overlay:
  lines w7.87: 50,-150 50,-60 ; 250,-150 250,-60 ; 150,-150 -50,-150 -50,-60 150,-60 ; 150,-150 150,-60 ; 150,-150 150,-60 ; 150,-150 350,-150 ; 150,-60 350,-60 ; 350,-150 450,-150 ; 350,-150 350,-60 ; 350,-150 350,-60 ; 350,-60 450,-60 ; 450,-150 550,-150 ; 450,-150 450,-60 ; 450,-150 450,-60 ; 450,-60 550,-60 ; 550,-150 650,-150 ; 550,-150 550,-60 ; 550,-150 550,-60 ; 550,-60 650,-60 ; 650,-150 750,-150 ; 650,-150 650,-60 ; 650,-150 650,-60 ; 650,-60 750,-60 ; 750,-150 850,-150 ; 750,-150 750,-60 ; 750,-150 750,-60 ; 750,-60 850,-60 ; 850,-150 950,-150 ; 850,-150 850,-60 ; 850,-150 850,-60 ; 850,-60 950,-60 ; 950,-150 1050,-150 ; 950,-150 950,-60 ; 950,-150 950,-60 ; 950,-60 1050,-60 ; 1050,-150 1050,-60 ; 1050,-150 1050,-60 ; 1050,-150 1150,-150 ; 1050,-150 1050,-60 ; 1050,-60 1150,-60 ; 1150,-150 1150,-60 ; 1150,-150 1250,-150 ; 1150,-150 1150,-60 ; 1150,-60 1250,-60 ; 1250,-150 1250,-60 ; 1250,-150 1350,-150 ; 1250,-150 1250,-60 ; 1250,-60 1350,-60 ; 1350,-150 1350,-60 ; 1350,-150 1450,-150 ; 1350,-150 1350,-60 ; 1350,-60 1450,-60 ; 1450,-150 1450,-60 ; 1450,-150 1550,-150 ; 1450,-150 1450,-60 ; 1450,-60 1550,-60 ; 1550,-150 1550,-60 ; 1550,-150 1650,-150 ; 1550,-150 1550,-60 ; 1550,-60 1650,-60 ; 1650,-150 1650,-60 ; 1650,-150 1750,-150 ; 1650,-150 1650,-60 ; 1650,-60 1750,-60 ; 1750,-150 1750,-60 ; 1750,-150 1850,-150 ; 1750,-150 1750,-60 ; 1750,-60 1850,-60 ; 1850,-150 1850,-60 ; 1850,-150 1950,-150 1950,-60 1850,-60 ; 1850,-150 1850,-60
3D body "User Library-Header90-1.step": height 101, standoff -117.11, extent 1849.81,-395.08 1949.81,12.8
3D body "User Library-Header90-1.step": height 101, standoff -117.11, extent 1749.81,-395.08 1849.81,12.8
3D body "User Library-Header90-1.step": height 101, standoff -117.11, extent 1649.81,-395.08 1749.81,12.8
3D body "User Library-Header90-1.step": height 101, standoff -117.11, extent 1549.81,-395.08 1649.81,12.8
3D body "User Library-Header90-1.step": height 101, standoff -117.11, extent 1449.81,-395.08 1549.81,12.8
3D body "User Library-Header90-1.step": height 101, standoff -117.11, extent 1349.81,-395.08 1449.81,12.8
3D body "User Library-Header90-1.step": height 101, standoff -117.11, extent 1249.81,-395.08 1349.81,12.8
3D body "User Library-Header90-1.step": height 101, standoff -117.11, extent 1149.81,-395.08 1249.81,12.8
3D body "User Library-Header90-1.step": height 101, standoff -117.11, extent 1049.81,-395.08 1149.81,12.8
3D body "User Library-Header90-1.step": height 101, standoff -117.11, extent 49.81,-395.08 149.81,12.8
3D body "User Library-Header90-1.step": height 101, standoff -117.11, extent -50.19,-395.08 49.81,12.8
3D body "User Library-Header90-1.step": height 101, standoff -117.11, extent 949.81,-395.08 1049.81,12.8
3D body "User Library-Header90-1.step": height 101, standoff -117.11, extent 849.81,-395.08 949.81,12.8
3D body "User Library-Header90-1.step": height 101, standoff -117.11, extent 749.81,-395.08 849.81,12.8
3D body "User Library-Header90-1.step": height 101, standoff -117.11, extent 649.81,-395.08 749.81,12.8
3D body "User Library-Header90-1.step": height 101, standoff -117.11, extent 549.81,-395.08 649.81,12.8
3D body "User Library-Header90-1.step": height 101, standoff -117.11, extent 449.81,-395.08 549.81,12.8
3D body "User Library-Header90-1.step": height 101, standoff -117.11, extent 349.81,-395.08 449.81,12.8
3D body "User Library-Header90-1.step": height 101, standoff -117.11, extent 149.81,-395.08 249.81,12.8
3D body "User Library-Header90-1.step": height 101, standoff -117.11, extent 249.81,-395.08 349.81,12.8

## PINHEAD_2.54mm_90deg_2x2 [mil]
pads (4):
  rect 60x60 hole 40: 1(0,0)
  round 60 hole 40: 2(0,100) 3(100,0) 4(100,100)
Top Overlay:
  lines w7.87: 50,-167.32 50,-68.9 ; 50,-167.32 150,-167.32 150,-68.9 50,-68.9 ; 50,-167.32 -50,-167.32 -50,-68.9 50,-68.9
3D body "901220122.stp": height 242.13, standoff -114.17, extent -49.99,-433.16 150.01,112.09

## PINHEAD_2.54mm_90deg_2x3 [mil]
pads (6):
  rect 60x60 hole 40: 1(0,0)
  round 60 hole 40: 2(0,100) 3(100,0) 4(100,100) 5(200,0) 6(200,100)
Top Overlay:
  lines w7.87: 50,-167.32 -50,-167.32 -50,-68.9 50,-68.9 ; 50,-167.32 150,-167.32 ; 50,-167.32 50,-68.9 ; 50,-68.9 150,-68.9 ; 150,-167.32 150,-68.9 ; 150,-167.32 150,-68.9 ; 150,-167.32 250,-167.32 250,-68.9 150,-68.9
3D body "901220123.stp": height 242.13, standoff -114.17, extent -49.99,-433.16 250.01,112.09

## PINHEAD_2.54mm_90deg_2x4 [mil]
pads (8):
  rect 60x60 hole 40: 1(0,0)
  round 60 hole 40: 2(0,100) 3(100,0) 4(100,100) 5(200,0) 6(200,100) 7(300,0) 8(300,100)
Top Overlay:
  lines w7.87: 50,-167.32 -50,-167.32 -50,-68.9 50,-68.9 ; 50,-167.32 150,-167.32 ; 50,-167.32 50,-68.9 ; 50,-68.9 150,-68.9 ; 150,-167.32 150,-68.9 ; 150,-167.32 250,-167.32 ; 150,-167.32 150,-68.9 ; 150,-68.9 250,-68.9 ; 250,-167.32 350,-167.32 350,-68.9 250,-68.9 ; 250,-167.32 250,-68.9
3D body "901220122.stp": height 242.13, standoff -114.17, extent 150.01,-433.16 350.01,112.09
3D body "901220122.stp": height 242.13, standoff -114.17, extent -49.99,-433.16 150.01,112.09

## PINHEAD_2.54mm_90deg_2x5 [mil]
pads (10):
  rect 60x60 hole 40: 1(0,0)
  round 60 hole 40: 2(0,100) 3(100,0) 4(100,100) 5(200,0) 6(200,100) 7(300,0) 8(300,100) 9(400,0) 10(400,100)
Top Overlay:
  lines w7.87: 50,-167.32 -50,-167.32 -50,-68.9 50,-68.9 ; 50,-167.32 150,-167.32 ; 50,-167.32 50,-68.9 ; 50,-68.9 150,-68.9 ; 150,-167.32 150,-68.9 ; 150,-167.32 150,-68.9 ; 150,-167.32 250,-167.32 ; 150,-68.9 250,-68.9 ; 250,-167.32 250,-68.9 ; 250,-167.32 350,-167.32 ; 250,-167.32 250,-68.9 ; 250,-68.9 350,-68.9 ; 350,-167.32 450,-167.32 450,-68.9 350,-68.9 ; 350,-167.32 350,-68.9
3D body "901220123.stp": height 242.13, standoff -114.17, extent -49.99,-433.16 250.01,112.09
3D body "901220122.stp": height 242.13, standoff -114.17, extent 250.01,-433.16 450.01,112.09

## PINHEAD_2.54mm_90deg_2x6 [mil]
pads (12):
  rect 60x60 hole 40: 1(0,0)
  round 60 hole 40: 2(0,100) 3(100,0) 4(100,100) 5(200,0) 6(200,100) 7(300,0) 8(300,100) 9(400,0) 10(400,100) 11(500,0) 12(500,100)
Top Overlay:
  lines w7.87: 50,-167.32 -50,-167.32 -50,-68.9 50,-68.9 ; 50,-167.32 150,-167.32 ; 50,-167.32 50,-68.9 ; 50,-68.9 150,-68.9 ; 150,-167.32 150,-68.9 ; 150,-167.32 150,-68.9 ; 150,-167.32 250,-167.32 ; 150,-68.9 250,-68.9 ; 250,-167.32 350,-167.32 ; 250,-167.32 250,-68.9 ; 250,-167.32 250,-68.9 ; 250,-68.9 350,-68.9 ; 350,-167.32 450,-167.32 ; 350,-167.32 350,-68.9 ; 350,-68.9 450,-68.9 ; 450,-167.32 450,-68.9 ; 450,-167.32 450,-68.9 ; 450,-167.32 550,-167.32 550,-68.9 450,-68.9
3D body "901220123.stp": height 242.13, standoff -114.17, extent 250.01,-433.16 550.01,112.09
3D body "901220123.stp": height 242.13, standoff -114.17, extent -49.99,-433.16 250.01,112.09

## PINHEAD_2.54mm_90deg_2x7 [mil]
pads (14):
  rect 60x60 hole 40: 1(0,0)
  round 60 hole 40: 2(0,100) 3(100,0) 4(100,100) 5(200,0) 6(200,100) 7(300,0) 8(300,100) 9(400,0) 10(400,100) 11(500,0) 12(500,100) 13(600,0) 14(600,100)
Top Overlay:
  lines w7.87: 50,-167.32 50,-68.9 ; 50,-167.32 150,-167.32 ; 50,-167.32 -50,-167.32 -50,-68.9 50,-68.9 ; 50,-68.9 150,-68.9 ; 150,-167.32 250,-167.32 ; 150,-167.32 150,-68.9 ; 150,-167.32 150,-68.9 ; 150,-68.9 250,-68.9 ; 250,-167.32 250,-68.9 ; 250,-167.32 350,-167.32 ; 250,-167.32 250,-68.9 ; 250,-68.9 350,-68.9 ; 350,-167.32 450,-167.32 ; 350,-167.32 350,-68.9 ; 350,-68.9 450,-68.9 ; 450,-167.32 450,-68.9 ; 450,-167.32 550,-167.32 ; 450,-167.32 450,-68.9 ; 450,-68.9 550,-68.9 ; 550,-167.32 650,-167.32 650,-68.9 550,-68.9 ; 550,-167.32 550,-68.9
3D body "901220123.stp": height 242.13, standoff -114.17, extent -49.99,-433.16 250.01,112.09
3D body "901220122.stp": height 242.13, standoff -114.17, extent 250.01,-433.16 450.01,112.09
3D body "901220122.stp": height 242.13, standoff -114.17, extent 450.01,-433.16 650.01,112.09